# EAGLE library part DRV8837 (library misc)
Motor Driver NMOS PWM 8-WSON (2x2)
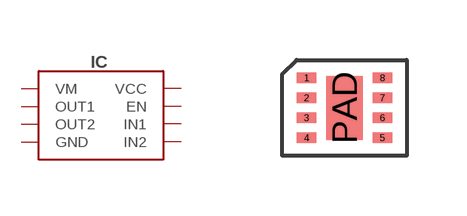
[diagram p8: symbol with the pads of WSON8; footprint WSON8]

Designator prefix IC

## DRV8837 (DIGIKEY#: 2156-DRV8837DSGT-ND; MANF: Texas Instruments; MANF#: DRV8837DSGT)  [WSON8]
1  VM
2  OUT1
3  OUT2
4  GND
5  IN2
6  IN1
7  EN
8  VCC
PAD  GND

## Footprint WSON8 (pad centres in mm)
smd 0.5 x 0.25: 1 -0.95,0.75; 2 -0.95,0.25; 3 -0.95,-0.25; 4 -0.95,-0.75; 5 0.95,-0.75; 6 0.95,-0.25; 7 0.95,0.25; 8 0.95,0.75
smd 0.9 x 1.6: PAD 0,0